# Altium footprint library Button_Switch_THT.PcbLib: 1 footprints
Each footprint in its own frame and in the unit in brackets; x right, y up, seen from the top. Pads: shape width x height; smd on the part's side, far side on the other; paste and mask are expansions set on the pad; w line width, h text height; cw(c..) or ccw(c..) is an arc to the next point about the centre after c.
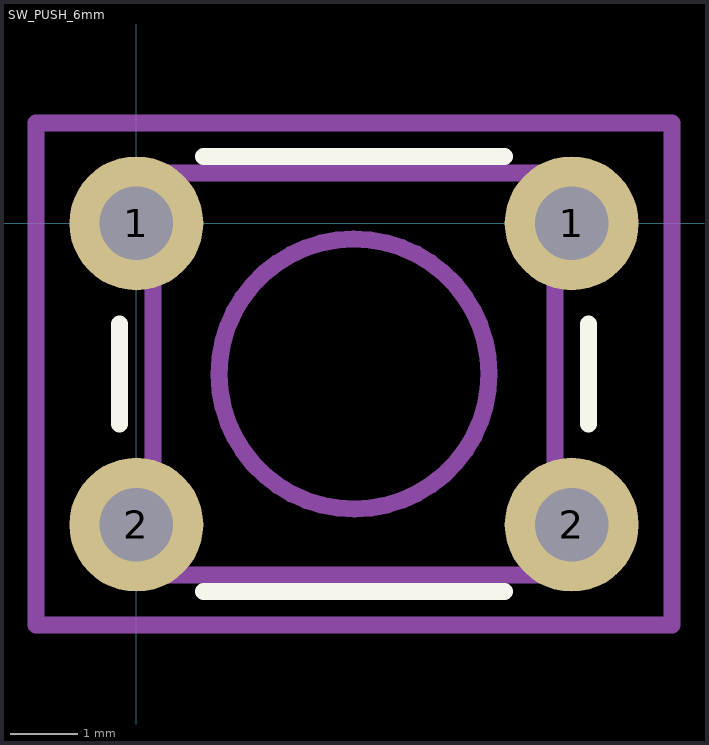
[diagram p0: the footprint, top view; thin cyan lines are the x and y axes]

## SW_PUSH_6mm [mm]
pads (4):
  round 2 hole 1.1: 1(0,0) 1(6.5,0) 2(0,-4.5) 2(6.5,-4.5)
F.SilkS:
  lines w0.254: -0.25,-3 -0.25,-1.5 ; 1,-5.5 5.5,-5.5 ; 1,1 5.5,1 ; 6.75,-3 6.75,-1.5
F.Fab:
  circle w0.254: c3.25,-2.25 r2.016
  lines w0.254: 0.25,-5.25 0.25,0.75 3.25,0.75 6.25,0.75 6.25,-5.25 0.25,-5.25
  text "'.Designator'" at -0.797,-3.09 h1
F.CrtYd:
  lines w0.254: -1.5,-6 -1.5,-5.75 -1.5,1.25 -1.5,1.5 -1.25,1.5 7.75,1.5 8,1.5 8,1.25 8,-5.75 8,-6 7.75,-6 -1.25,-6 -1.5,-6